# Altium footprint library PCB1.PcbLib: 38 footprints (part 2 of 3)
Each footprint in its own frame and in the unit in brackets; x right, y up, seen from the top. Pads: shape width x height; smd on the part's side, far side on the other; paste and mask are expansions set on the pad; w line width, h text height; cw(c..) or ccw(c..) is an arc to the next point about the centre after c.
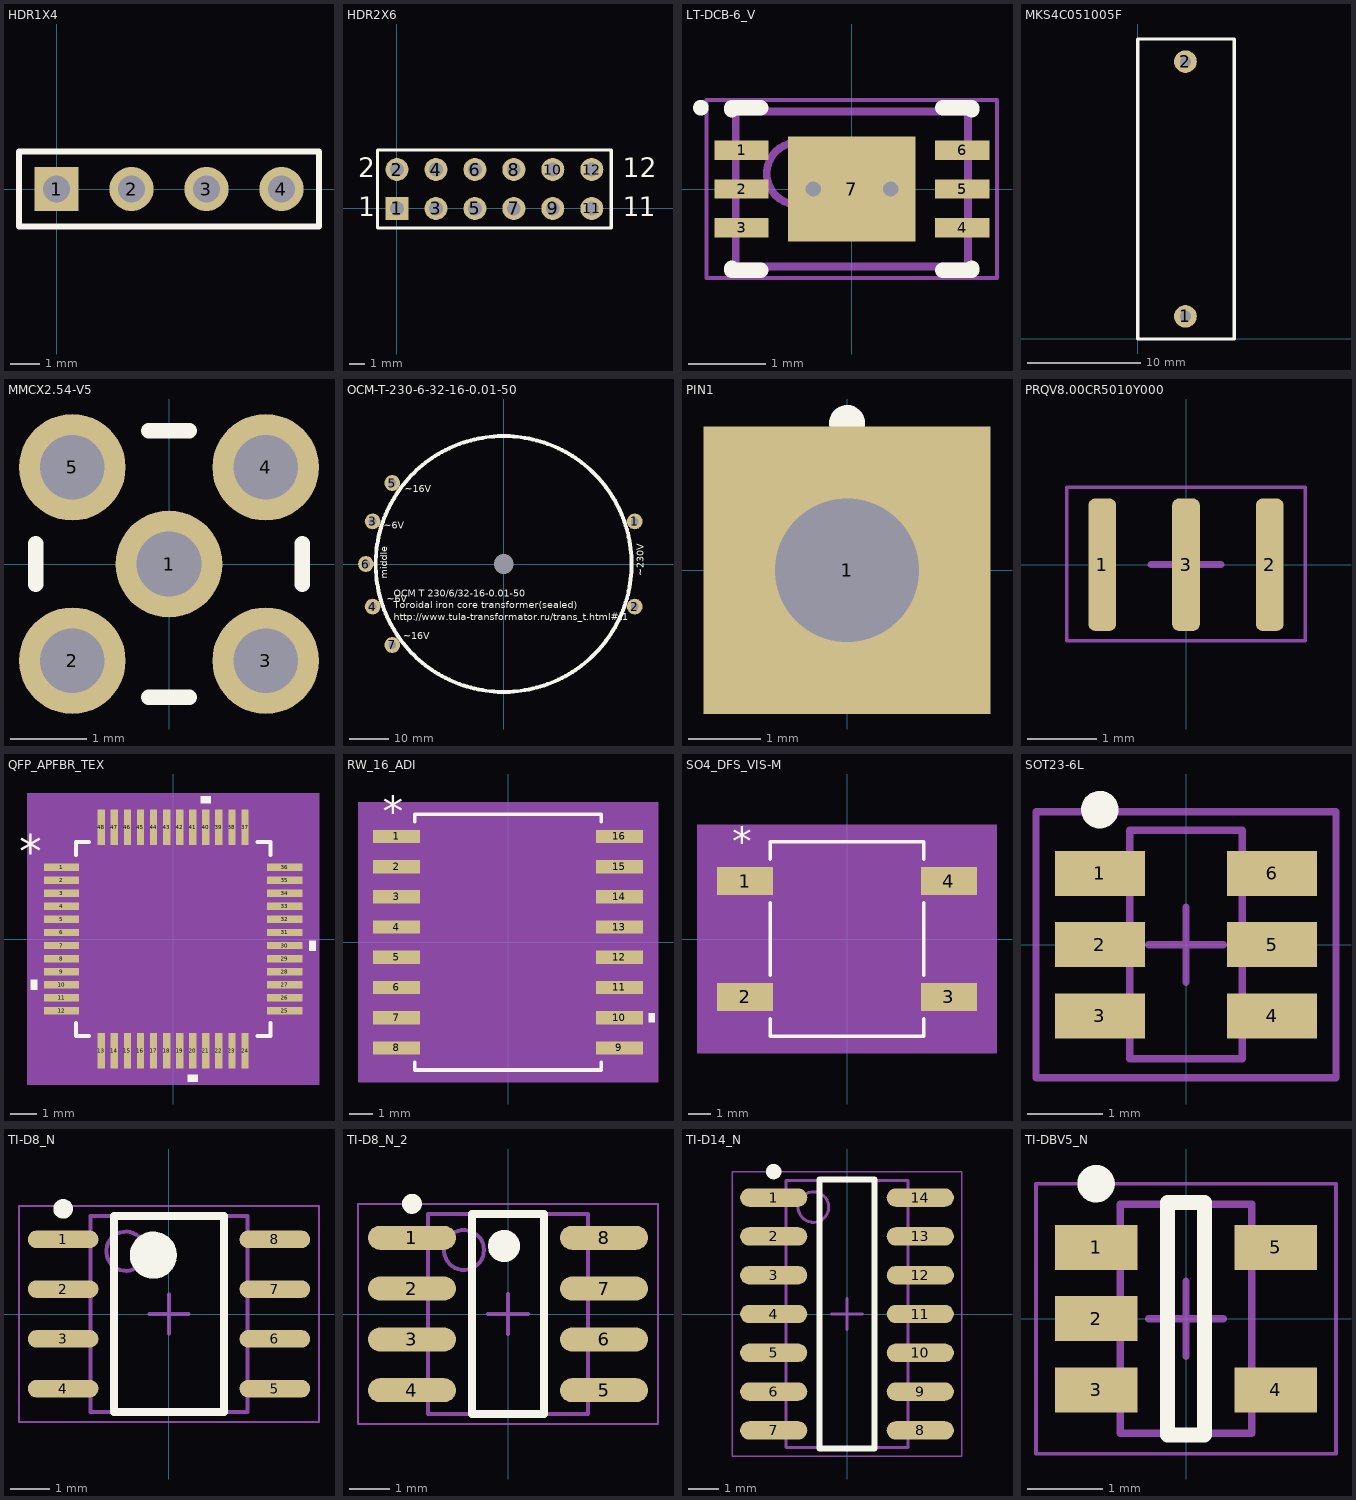
[diagram p1: the footprints below, top view; thin cyan lines are the x and y axes]

## HDR1X4 [mm]
pads (4):
  rect 1.5x1.5 hole 0.9: 1(0,0)
  round 1.5 hole 0.9: 2(2.54,0) 3(5.08,0) 4(7.62,0)
Top Overlay:
  lines w0.2: -1.27,-1.27 -1.27,1.27 8.89,1.27 8.89,-1.27 -1.27,-1.27

## HDR2X6 [mm]
pads (12):
  rect 1.5x1.5 hole 0.9: 1(0,0)
  round 1.5 hole 0.9: 2(0,2.54) 3(2.54,0) 4(2.54,2.54) 5(5.08,0) 6(5.08,2.54) 7(7.62,0) 8(7.62,2.54) 9(10.16,0) 10(10.16,2.54) 11(12.7,0) 12(12.7,2.54)
Top Overlay:
  lines w0.2: -1.27,-1.27 -1.27,3.81 13.97,3.81 13.97,-1.27 -1.27,-1.27
  text "2" at -2.54,2.032 h1.27
  text "1" at -2.54,-0.508 h1.27
  text "1" at 14.732,-0.508 h1.27
  text "1" at 15.748,-0.508 h1.27
  text "12" at 14.732,2.032 h1.27

## LT-DCB-6_V [mm]
pads (7):
  rect 0.7x0.25 smd mask+0.102: 1(-1.425,0.5) 2(-1.425,0) 3(-1.425,-0.5) 4(1.425,-0.5) 5(1.425,0) 6(1.425,0.5)
  rect 1.65x1.35 smd mask+0.102: 7(0,0)
via -0.5,0 diameter 0.5 hole 0.2
via 0.5,0 diameter 0.5 hole 0.2
Top Overlay:
  circle w0.1: c-1.95,1.05 r0.05
  lines w0.2: -1.55,-1.025 -1.55,-1.05 -1.175,-1.05 ; -1.55,1.025 -1.55,1.05 -1.175,1.05 ; 1.175,-1.05 1.55,-1.05 1.55,-1.025 ; 1.175,1.05 1.55,1.05 1.55,1.025
Mechanical 13:
  circle w0.1: c-0.7,0.2 r0.4
  lines w0.1: -1.5,-1 -1.5,1 1.5,1 1.5,-1 -1.5,-1
Mechanical 15:
  lines w0.05: -1.875,-1.15 -1.875,1.15 1.875,1.15 1.875,-1.15 -1.875,-1.15
  lines w0.1: -0.5,0 0.5,0 ; 0,-0.5 0,0.5
3D body: height 0.8, standoff 0, extent -1.5,-1 1.5,1

## MKS4C051005F [mm]
pads (2):
  round 2 hole 1: 1(4.2,2) 2(4.2,24.5)
Top Overlay:
  lines w0.3: 0,0 0,26.5 8.5,26.5 8.5,0 0,0
3D body: height 18.5, standoff 0, extent 0.1,0.1 8.5,26.5

## MMCX2.54-V5 [mm]
pads (5):
  round 1.4 hole 0.85: 1(0,0) 2(-1.27,-1.27) 3(1.27,-1.27) 4(1.27,1.27) 5(-1.27,1.27)
Top Overlay:
  lines w0.2: -1.75,-0.27 -1.75,0.27 ; -0.27,-1.75 0.27,-1.75 ; -0.27,1.75 0.27,1.75 ; 1.75,-0.27 1.75,0.27
3D body "User Library-MMCX-BoardMount.step": height 4.42, standoff -3.02, extent -1.778,-1.755 1.732,1.755

## OCM-T-230-6-32-16-0.01-50 [mm]
pads (8):
  round 1 hole 5: 0(0,0)
  round 4 hole 2: 1(33.287,10.816) 2(33.287,-10.816) 3(-33.287,10.816) 4(-33.287,-10.816) 5(-28.316,20.572) 6(-35,0) 7(-28.316,-20.572)
Top Overlay:
  circle w1: c0,0 r32.5
  text "~16V" at -25.146,17.653 h3
  text "~16V" at -25.527,-19.812 h3
  text "~6V" at -29.718,-10.414 h3
  text "~6V" at -30.48,8.382 h3
  text "middle" at -28.956,-3.81 h3
  text "~230V" at 36.2,-3.1 h3
  text "OCM T 230/6/32-16-0.01-50 / Toroidal iron core transformer(sealed) / http://www.tula-transformator.ru/trans_t.html#t1" at -27.88,-14.921 h3

## PIN1 [mm]
pads (1):
  rect 4x4 hole 2: 1(0,0)
Top Overlay:
  circle w0.25: c0,2.05 r0.125
  lines w0.2: -1.4,-1.4 1.4,-1.4 1.4,1.4 -1.4,1.4 -1.4,-1.4

## PRQV8.00CR5010Y000 [mm]
pads (3):
  rrect50% 0.4x1.9 smd: 1(-1.2,0) 2(1.2,0) 3(0,0)
Mechanical 15:
  lines w0.05: -1.71,-1.09 1.71,-1.09 1.71,1.11 -1.71,1.11 -1.71,-1.09
  lines w0.1: -0.5,0 0.5,0 ; 0,-0.5 0,0.5
3D body: height 1, standoff 0, extent -1.6,-0.65 1.6,0.65

## QFP_APFBR_TEX [mil]
pads (48):
  rect 53.28x11 smd paste+0 mask+0: 1(-168.14,108.3) 2(-168.14,88.61) 3(-168.14,68.92) 4(-168.14,49.23) 5(-168.14,29.54) 6(-168.14,9.85) 7(-168.14,-9.85) 8(-168.14,-29.54) 9(-168.14,-49.23) 10(-168.14,-68.92) 11(-168.14,-88.61) 12(-168.14,-108.3) 25(168.14,-108.3) 26(168.14,-88.61) 27(168.14,-68.92) 28(168.14,-49.23) 29(168.14,-29.54) 30(168.14,-9.85) 31(168.14,9.85) 32(168.14,29.54) 33(168.14,49.23) 34(168.14,68.92) 35(168.14,88.61) 36(168.14,108.3)
  rect 11x53.28 smd paste+0 mask+0: 13(-108.3,-168.14) 14(-88.61,-168.14) 15(-68.92,-168.14) 16(-49.23,-168.14) 17(-29.54,-168.14) 18(-9.85,-168.14) 19(9.85,-168.14) 20(29.54,-168.14) 21(49.23,-168.14) 22(68.92,-168.14) 23(88.61,-168.14) 24(108.3,-168.14) 37(108.3,168.14) 38(88.61,168.14) 39(68.92,168.14) 40(49.23,168.14) 41(29.54,168.14) 42(9.85,168.14) 43(-9.85,168.14) 44(-29.54,168.14) 45(-49.23,168.14) 46(-68.92,168.14) 47(-88.61,168.14) 48(-108.3,168.14)
Top Overlay:
  region: -204.78,-61.41 -214.78,-61.41 -214.78,-76.42 -204.78,-76.42
  region: 37.03,-204.78 22.04,-204.78 22.04,-214.78 37.03,-214.78
  region: 204.78,-2.35 214.78,-2.35 214.78,-17.34 204.78,-17.34
  region: 56.73,204.78 41.73,204.78 41.73,214.78 56.73,214.78
  lines w6: -146.5,-126.89 -146.5,-146.5 -126.89,-146.5 ; -146.5,126.89 -146.5,146.5 -126.89,146.5 ; 126.89,-146.5 146.5,-146.5 146.5,-126.89 ; 126.89,146.5 146.5,146.5 146.5,126.89
  text "*" at -232.28,108.14 h50
Mechanical 5:
  region: 219.78,-219.78 -219.78,-219.78 -219.78,219.78 219.78,219.78
Mechanical 13:
  drawing of 197 lines, arcs and shapes, not listed
  text "*" at -139,93.14 h50
Mechanical 15:
  region: -123.8,-151.5 -151.5,-151.5 -151.5,-123.8 -204.78,-123.8 -204.78,123.8 -151.5,123.8 -151.5,151.5 -123.8,151.5 -123.8,204.78 123.8,204.78 123.8,151.5 151.5,151.5 151.5,123.8 204.78,123.8 204.78,-123.8 151.5,-123.8 151.5,-151.5 123.8,-151.5 123.8,-204.78 -123.8,-204.78
  lines w6: -204.78,-123.8 -151.5,-123.8 -151.5,-151.5 -123.8,-151.5 -123.8,-204.78 123.8,-204.78 123.8,-151.5 151.5,-151.5 151.5,-123.8 204.78,-123.8 204.78,123.8 151.5,123.8 151.5,151.5 123.8,151.5 123.8,204.78 -123.8,204.78 -123.8,151.5 -151.5,151.5 -151.5,123.8 -204.78,123.8 -204.78,-123.8
3D body: height 10, standoff 0, extent 0,0 10,10
3D body "QFP_APFBR_TEX.step": height 47.09, standoff 0, extent -180.98,-180.98 180.99,180.99

## RW_16_ADI [mm]
pads (16):
  rect 1.97x0.558 smd paste+0 mask+0: 1(-4.686,4.445) 2(-4.686,3.175) 3(-4.686,1.905) 4(-4.686,0.635) 5(-4.686,-0.635) 6(-4.686,-1.905) 7(-4.686,-3.175) 8(-4.686,-4.445) 9(4.686,-4.445) 10(4.686,-3.175) 11(4.686,-1.905) 12(4.686,-0.635) 13(4.686,0.635) 14(4.686,1.905) 15(4.686,3.175) 16(4.686,4.445)
Top Overlay:
  region: 5.925,-2.984 6.179,-2.984 6.179,-3.365 5.925,-3.365
  lines w0.152: -3.924,-5.057 -3.924,-5.372 3.924,-5.372 3.924,-5.057 ; -3.924,5.057 -3.924,5.372 3.924,5.372 3.924,5.057
  text "*" at -5.258,4.876 h1.27
Mechanical 5:
  region: 6.306,-5.88 -6.306,-5.88 -6.306,5.88 6.306,5.88
Mechanical 13:
  lines w0: -0.305,5.245 ccw(c0,5.245) 0.305,5.245
  lines w0.025: -5.321,-4.699 -5.321,-4.191 -3.797,-4.191 -3.797,-4.699 -5.321,-4.699 ; -5.321,-3.429 -5.321,-2.921 -3.797,-2.921 -3.797,-3.429 -5.321,-3.429 ; -5.321,-2.159 -5.321,-1.651 -3.797,-1.651 -3.797,-2.159 -5.321,-2.159 ; -5.321,-0.889 -5.321,-0.381 -3.797,-0.381 -3.797,-0.889 -5.321,-0.889 ; -5.321,0.381 -5.321,0.889 -3.797,0.889 -3.797,0.381 -5.321,0.381 ; -5.321,1.651 -5.321,2.159 -3.797,2.159 -3.797,1.651 -5.321,1.651 ; -5.321,2.921 -5.321,3.429 -3.797,3.429 -3.797,2.921 -5.321,2.921 ; -5.321,4.191 -5.321,4.699 -3.797,4.699 -3.797,4.191 -5.321,4.191 ; -3.797,-5.245 3.797,-5.245 3.797,5.245 -3.797,5.245 -3.797,-5.245 ; 3.797,-4.699 3.797,-4.191 5.321,-4.191 5.321,-4.699 3.797,-4.699 ; 3.797,-3.429 3.797,-2.921 5.321,-2.921 5.321,-3.429 3.797,-3.429 ; 3.797,-2.159 3.797,-1.651 5.321,-1.651 5.321,-2.159 3.797,-2.159 ; 3.797,-0.889 3.797,-0.381 5.321,-0.381 5.321,-0.889 3.797,-0.889 ; 3.797,0.381 3.797,0.889 5.321,0.889 5.321,0.381 3.797,0.381 ; 3.797,1.651 3.797,2.159 5.321,2.159 5.321,1.651 3.797,1.651 ; 3.797,2.921 3.797,3.429 5.321,3.429 5.321,2.921 3.797,2.921 ; 3.797,4.191 3.797,4.699 5.321,4.699 5.321,4.191 3.797,4.191
  text "*" at -3.734,3.899 h1.27
Mechanical 15:
  region: -4.051,-4.978 -5.925,-4.978 -5.925,4.978 -4.051,4.978 -4.051,5.499 4.051,5.499 4.051,4.978 5.925,4.978 5.925,-4.978 4.051,-4.978 4.051,-5.499 -4.051,-5.499
  lines w0.152: -5.925,-4.978 -5.925,4.978 -4.051,4.978 -4.051,5.499 4.051,5.499 4.051,4.978 5.925,4.978 5.925,-4.978 4.051,-4.978 4.051,-5.499 -4.051,-5.499 -4.051,-4.978 -5.925,-4.978
3D body: height 0.25, standoff 0, extent 0,0 0.254,0.254
3D body "RW_16_ADI.step": height 2.64, standoff 0, extent -5.321,-5.245 5.321,5.245

## SO4_DFS_VIS-M [mm]
pads (4):
  rect 2.455x1.244 smd paste+0 mask+0: 1(-4.479,2.55) 2(-4.479,-2.55) 3(4.479,-2.55) 4(4.479,2.55)
Top Overlay:
  lines w0.152: -3.378,-3.505 -3.378,-4.267 3.378,-4.267 3.378,-3.505 ; -3.378,-1.595 -3.378,1.595 ; -3.378,3.505 -3.378,4.267 3.378,4.267 3.378,3.505 ; 3.378,-1.595 3.378,1.595
  text "*" at -5.05,3.667 h1.27
Mechanical 5:
  region: 6.595,-5.029 -6.595,-5.029 -6.595,5.029 6.595,5.029
Mechanical 13:
  lines w0: -0.305,4.14 ccw(c0,4.14) 0.305,4.14
  lines w0.025: -5.156,-3.147 -5.156,-1.953 -3.251,-1.953 -3.251,-3.147 -5.156,-3.147 ; -5.156,1.953 -5.156,3.147 -3.251,3.147 -3.251,1.953 -5.156,1.953 ; -3.251,-4.14 3.251,-4.14 3.251,4.14 -3.251,4.14 -3.251,-4.14 ; 3.251,-3.147 3.251,-1.953 5.156,-1.953 5.156,-3.147 3.251,-3.147 ; 3.251,1.953 3.251,3.147 5.156,3.147 5.156,1.953 3.251,1.953
  text "*" at -3.188,2.794 h1.27
Mechanical 15:
  region: -3.759,-3.68 -6.214,-3.68 -6.214,3.68 -3.759,3.68 -3.759,4.648 3.759,4.648 3.759,3.68 6.214,3.68 6.214,-3.68 3.759,-3.68 3.759,-4.648 -3.759,-4.648
  lines w0.152: -6.214,-3.68 -6.214,3.68 -3.759,3.68 -3.759,4.648 3.759,4.648 3.759,3.68 6.214,3.68 6.214,-3.68 3.759,-3.68 3.759,-4.648 -3.759,-4.648 -3.759,-3.68 -6.214,-3.68
3D body: height 0.25, standoff 0, extent 0,0 0.254,0.254
3D body "SO4_DFS_VIS.step": height 2.92, standoff 0, extent -5.156,-4.14 5.156,4.14

## SOT23-6L [mm]
pads (6):
  rect 1.2x0.6 smd: 1(-1.15,0.95) 2(-1.15,0) 3(-1.15,-0.95) 4(1.15,-0.95) 5(1.15,0) 6(1.15,0.95)
Top Overlay:
  circle w0.25: c-1.15,1.8 r0.125
Mechanical 13:
  lines w0.1: -0.75,-1.525 0.75,-1.525 0.75,1.525 -0.75,1.525 -0.75,-1.525
Mechanical 15:
  lines w0.1: -0.5,0 0.5,0 ; 0,-0.5 0,0.5 ; -2,-1.775 2,-1.775 2,1.775 -2,1.775 -2,-1.775
3D body: height 1.45, standoff 0.1, extent -0.75,-1.525 0.75,1.525

## TI-D8_N [mm]
pads (8):
  oval 1.8x0.45 smd: 1(-2.7,1.905) 2(-2.7,0.635) 3(-2.7,-0.635) 4(-2.7,-1.905) 5(2.7,-1.905) 6(2.7,-0.635) 7(2.7,0.635) 8(2.7,1.905)
Top Overlay:
  circle w0.6: c-0.4,1.5 r0.3
  circle w0.25: c-2.7,2.68 r0.125
  lines w0.2: -1.4,-2.5 1.4,-2.5 1.4,2.5 -1.4,2.5 -1.4,-2.5
Mechanical 13:
  circle w0.1: c-1.1,1.6 r0.5
  lines w0.1: -2,-2.5 2,-2.5 2,2.5 -2,2.5 -2,-2.5
Mechanical 15:
  lines w0.05: -3.825,-2.75 3.825,-2.75 3.825,2.75 -3.825,2.75 -3.825,-2.75
  lines w0.1: -0.5,0 0.5,0 ; 0,-0.5 0,0.5
3D body: height 1.75, standoff 0.1, extent -2,-2.5 2,2.5

## TI-D8_N_2 [mm]
pads (8):
  oval 2.2x0.6 smd: 1(-2.4,1.905) 2(-2.4,0.635) 3(-2.4,-0.635) 4(-2.4,-1.905) 5(2.4,-1.905) 6(2.4,-0.635) 7(2.4,0.635) 8(2.4,1.905)
Top Overlay:
  circle w0.25: c-2.4,2.755 r0.125
  circle w0.4: c-0.1,1.7 r0.2
  lines w0.2: -0.9,-2.5 -0.9,2.5 0.9,2.5 0.9,-2.5 -0.9,-2.5
Mechanical 13:
  circle w0.1: c-1.1,1.6 r0.5
  lines w0.1: -2,-2.5 -2,2.5 2,2.5 2,-2.5 -2,-2.5
Mechanical 15:
  lines w0.05: -3.75,-2.75 -3.75,2.75 3.75,2.75 3.75,-2.75 -3.75,-2.75
  lines w0.1: -0.5,0 0.5,0 ; 0,-0.5 0,0.5
3D body: height 1.75, standoff 0.1, extent -2,-2.5 2,2.5

## TI-D14_N [mm]
pads (14):
  oval 2.2x0.6 smd: 1(-2.4,3.81) 2(-2.4,2.54) 3(-2.4,1.27) 4(-2.4,0) 5(-2.4,-1.27) 6(-2.4,-2.54) 7(-2.4,-3.81) 8(2.4,-3.81) 9(2.4,-2.54) 10(2.4,-1.27) 11(2.4,0) 12(2.4,1.27) 13(2.4,2.54) 14(2.4,3.81)
Top Overlay:
  circle w0.25: c-2.4,4.66 r0.125
  lines w0.2: -0.9,-4.4 -0.9,4.4 0.9,4.4 0.9,-4.4 -0.9,-4.4
Mechanical 13:
  circle w0.1: c-1.1,3.5 r0.5
  lines w0.1: -2,-4.375 -2,4.375 2,4.375 2,-4.375 -2,-4.375
Mechanical 15:
  lines w0.05: -3.75,-4.65 -3.75,4.65 3.75,4.65 3.75,-4.65 -3.75,-4.65
  lines w0.1: -0.5,0 0.5,0 ; 0,-0.5 0,0.5
3D body: height 1.75, standoff 0.1, extent -2,-4.375 2,4.375

## TI-DBV5_N [mm]
pads (5):
  rect 1.1x0.6 smd: 1(-1.2,0.95) 2(-1.2,0) 3(-1.2,-0.95) 4(1.2,-0.95) 5(1.2,0.95)
Top Overlay:
  circle w0.25: c-1.2,1.8 r0.125
  lines w0.2: -0.25,-1.55 0.25,-1.55 0.25,1.55 -0.25,1.55 -0.25,-1.55
Mechanical 13:
  lines w0.1: -0.875,-1.525 -0.875,1.525 0.875,1.525 0.875,-1.525 -0.875,-1.525
Mechanical 15:
  lines w0.05: -2,-1.8 -2,1.8 2,1.8 2,-1.8 -2,-1.8
  lines w0.1: -0.5,0 0.5,0 ; 0,-0.5 0,0.5
3D body: height 1.45, standoff 0, extent -0.875,-1.525 0.875,1.525